# Altium schematic symbol library ESP32.SchLib: 19 symbols (part 1 of 2)
Pins are listed as number, name and electrical type; pins without a type are passive.

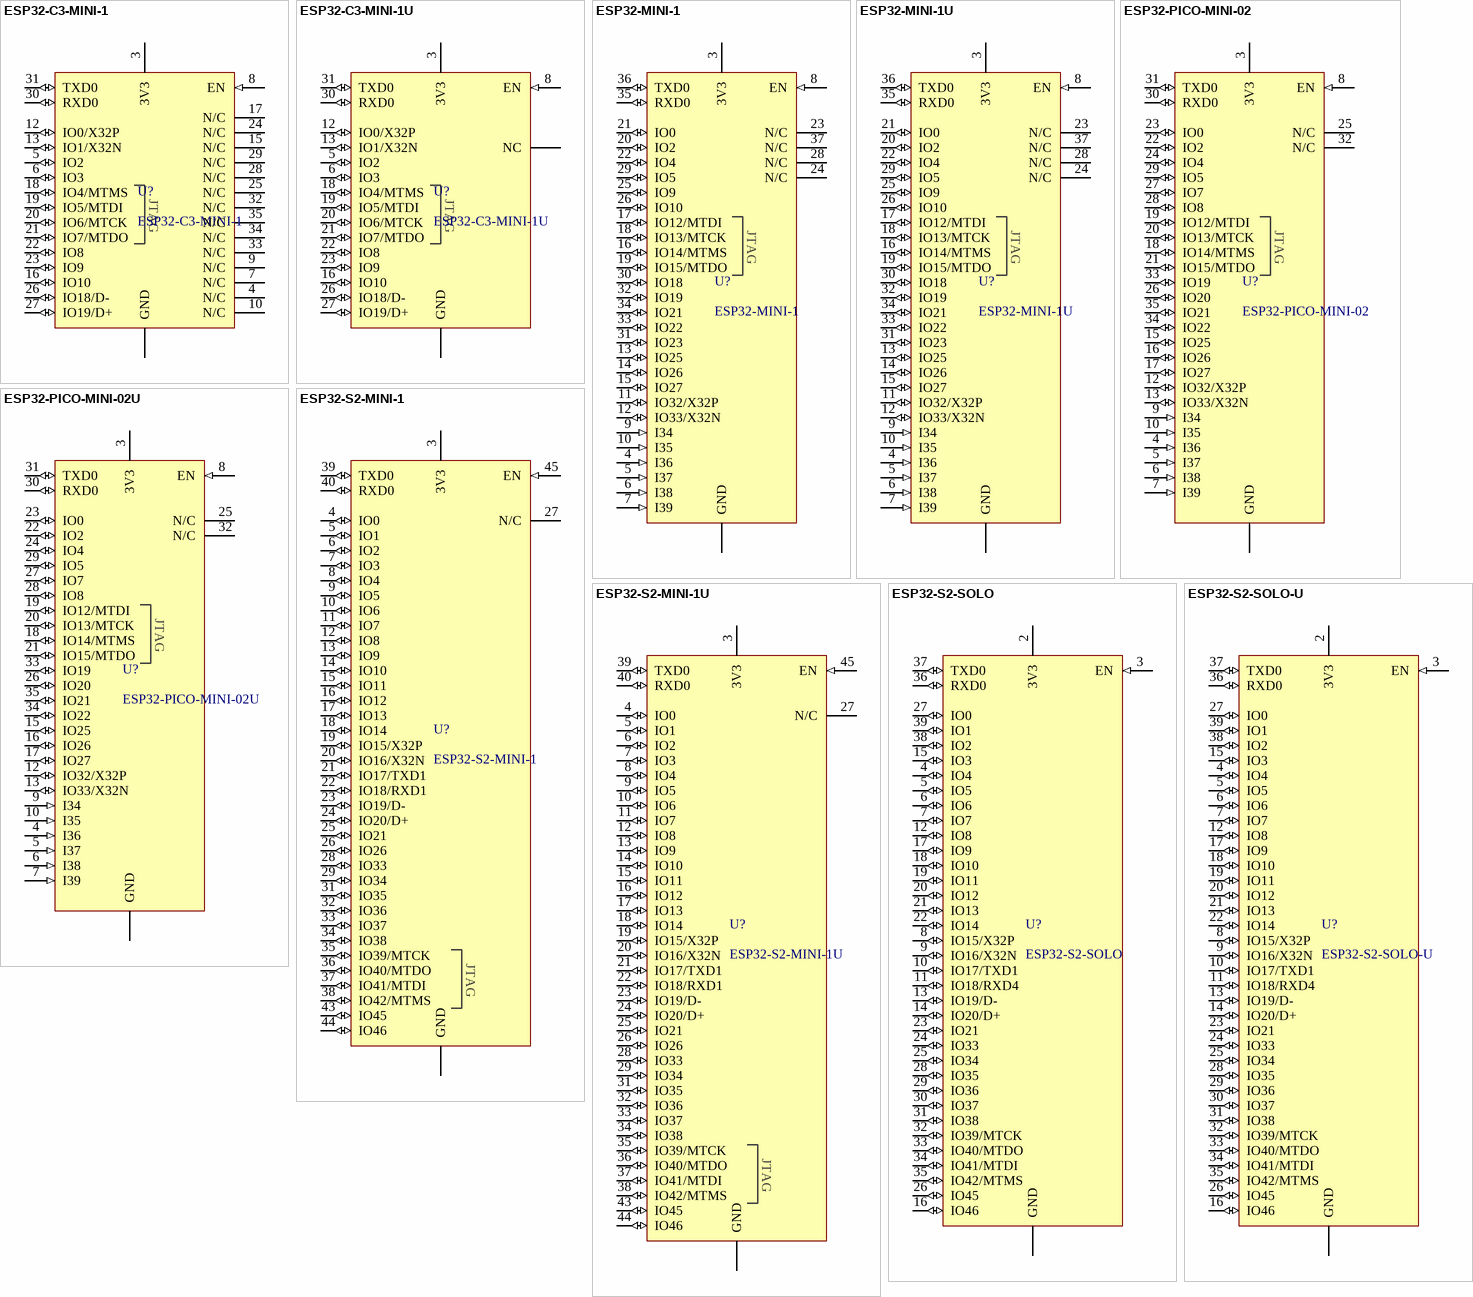
[diagram p0: symbols ESP32-C3-MINI-1 to ESP32-S2-SOLO-U]

## ESP32-C3-MINI-1
designator U?
PCB Antenna - 2.4 GHz Wi­Fi (802.11 b/g/n) and Bluetooth® 5 module; Manufacturer_Name: Espressif Systems; ComponentLink1Description: Datasheet; ComponentLink1URL: https://www.espressif.com/sites/default/files/documentation/esp32-c3-mini-1_datasheet_en.pdf; ComponentLink2Description: SoC Datasheet; ComponentLink2URL: https://www.espressif.com/sites/default/files/documentation/esp32-c3_datasheet_en.pdf; ComponentLink3Description: Devkit; ComponentLink3URL: https://docs.espressif.com/projects/esp-idf/en/latest/esp32c3/hw-reference/esp32c3/user-guide-devkitm-1.html
footprint ESP32-C3-MINI/PICO-MINI (PCB ANTENNA - 53 PIN)
pins: 1 GND (power) "Ground", 2 GND (power) "Ground", 3 3V3 (power) "Power Supply", 4 N/C "Non Connected", 5 IO2 (io) "GPIO2, ADC1_CH2, FSPIQ", 6 IO3 (io) "GPIO3, ADC1_CH3", 7 N/C "Non Connected", 8 EN (in) "Chip Enable", 9 N/C "Non Connected", 10 N/C "Non Connected", 11 GND (power) "Ground", 12 IO0/X32P (io) "GPIO0, ADC1_CH0, XTAL_32K_P", 13 IO1/X32N (io) "GPIO1, ADC1_CH1, XTAL_32K_N", 14 GND (power) "Ground", 15 N/C "Non Connected", 16 IO10 (io) "GPIO10, FSPICS0", 17 N/C "Non Connected", 18 IO4/MTMS (io) "GPIO4, ADC1_CH4, FSPIHD, MTMS", 19 IO5/MTDI (io) "GPIO5, ADC2_CH0, FSPIWP, MTDI", 20 IO6/MTCK (io) "GPIO6, FSPICLK, MTCK", 21 IO7/MTDO (io) "GPIO7, FSPID, MTDO", 22 IO8 (io) "GPIO8", 23 IO9 (io) "GPIO9", 24 N/C "Non Connected", 25 N/C "Non Connected", 26 IO18/D- (io) "GPIO18, USB_D", 27 IO19/D+ (io) "GPIO19, USB_D+", 28 N/C "Non Connected", 29 N/C "Non Connected", 30 RXD0 (io) "GPIO20, U0RXD", 31 TXD0 (io) "GPIO21, U0TXD", 32 N/C "Non Connected", 33 N/C "Non Connected", 34 N/C "Non Connected", 35 N/C "Non Connected", 36 GND (power) "Ground", 37 GND (power) "Ground", 38 GND (power) "Ground", 39 GND (power) "Ground", 40 GND (power) "Ground", 41 GND (power) "Ground", 42 GND (power) "Ground", 43 GND (power) "Ground", 44 GND (power) "Ground", 45 GND (power) "Ground", 46 GND (power) "Ground", 47 GND (power) "Ground", 48 GND (power) "Ground", 49 GND (power) "Ground", 50 GND (power) "Ground", 51 GND (power) "Ground", 52 GND (power) "Ground", 53 GND (power) "Ground"
text: JTAG

## ESP32-C3-MINI-1U
designator U?
IPEX Antenna - 2.4 GHz Wi­Fi (802.11 b/g/n) and Bluetooth® 5 module; Manufacturer_Name: Espressif Systems; ComponentLink1Description: Datasheet; ComponentLink1URL: https://www.espressif.com/sites/default/files/documentation/esp32-c3-mini-1_datasheet_en.pdf; ComponentLink2Description: SoC Datasheet; ComponentLink2URL: https://www.espressif.com/sites/default/files/documentation/esp32-c3_datasheet_en.pdf; ComponentLink3Description: Devkit; ComponentLink3URL: https://docs.espressif.com/projects/esp-idf/en/latest/esp32c3/hw-reference/esp32c3/user-guide-devkitm-1.html
footprint ESP32-C3-MINI-1U/PICO-MINI-U (IPEX ANTENNA - 53 PIN)
pins: 1 GND (power) "Ground", 2 GND (power) "Ground", 3 3V3 (power) "Power Supply", 4 NC "Non Connected", 5 IO2 (io) "GPIO2, ADC1_CH2, FSPIQ", 6 IO3 (io) "GPIO3, ADC1_CH3", 7 NC "Non Connected", 8 EN (in) "Chip Enable", 9 NC "Non Connected", 10 NC "Non Connected", 11 GND (power) "Ground", 12 IO0/X32P (io) "GPIO0, ADC1_CH0, XTAL_32K_P", 13 IO1/X32N (io) "GPIO1, ADC1_CH1, XTAL_32K_N", 14 GND (power) "Ground", 15 NC "Non Connected", 16 IO10 (io) "GPIO10, FSPICS0", 17 NC "Non Connected", 18 IO4/MTMS (io) "GPIO4, ADC1_CH4, FSPIHD, MTMS", 19 IO5/MTDI (io) "GPIO5, ADC2_CH0, FSPIWP, MTDI", 20 IO6/MTCK (io) "GPIO6, FSPICLK, MTCK", 21 IO7/MTDO (io) "GPIO7, FSPID, MTDO", 22 IO8 (io) "GPIO8", 23 IO9 (io) "GPIO9", 24 NC "Non Connected", 25 NC "Non Connected", 26 IO18/D- (io) "GPIO18, USB_D", 27 IO19/D+ (io) "GPIO19, USB_D+", 28 NC "Non Connected", 29 NC "Non Connected", 30 RXD0 (io) "GPIO20, U0RXD", 31 TXD0 (io) "GPIO21, U0TXD", 32 NC "Non Connected", 33 NC "Non Connected", 34 NC "Non Connected", 35 NC "Non Connected", 36 GND (power) "Ground", 37 GND (power) "Ground", 38 GND (power) "Ground", 39 GND (power) "Ground", 40 GND (power) "Ground", 41 GND (power) "Ground", 42 GND (power) "Ground", 43 GND (power) "Ground", 44 GND (power) "Ground", 45 GND (power) "Ground", 46 GND (power) "Ground", 47 GND (power) "Ground", 48 GND (power) "Ground", 49 GND (power) "Ground", 50 GND (power) "Ground", 51 GND (power) "Ground", 52 GND (power) "Ground", 53 GND (power) "Ground"
text: JTAG

## ESP32-MINI-1
designator U?
IPEX Antenna - 2 MB Embedded PSRAM - 8 MB Embedded Flash - WiFi - BT - MCU / Single core 160MHz; Manufacturer_Name: Espressif Systems; ComponentLink1Description: Datasheet; ComponentLink1URL: https://www.espressif.com/sites/default/files/documentation/esp32-mini-1_datasheet_en.pdf; ComponentLink2Description: SoC Datasheet; ComponentLink2URL: https://www.espressif.com/sites/default/files/documentation/esp32_datasheet_en.pdf; ComponentLink3Description: Devkit; ComponentLink3URL: https://docs.espressif.com/projects/esp-idf/en/latest/esp32/hw-reference/esp32/user-guide-devkitm-1.html
footprint ESP32-MINI-1 (PCB ANTENNA - 55 PIN)
pins: 1 GND (power) "Ground", 2 GND (power) "Ground", 3 3V3 (power) "Power Supply", 4 I36 (in) "GPIO36, ADC1_CH0, RTC_GPIO0", 5 I37 (in) "GPIO37, ADC1_CH1, RTC_GPIO1", 6 I38 (in) "GPIO38, ADC1_CH2, RTC_GPIO2", 7 I39 (in) "GPIO39, ADC1_CH3, RTC_GPIO3", 8 EN (in) "Chip Enable", 9 I34 (in) "GPIO34, ADC1_CH6, RTC_GPIO4", 10 I35 (in) "GPIO35, ADC1_CH7, RTC_GPIO5", 11 IO32/X32P (io) "GPIO32, XTAL_32K_P (32.768 kHz crystal oscillator input), ADC1_CH4, TOUCH9, RTC_GPIO9", 12 IO33/X32N (io) "GPIO33, XTAL_32K_N (32.768 kHz crystal oscillator output), ADC1_CH5, TOUCH8, RTC_GPIO8", 13 IO25 (io) "GPIO25, DAC_1, ADC2_CH8, RTC_GPIO6, EMAC_RXD0", 14 IO26 (io) "GPIO26, DAC_2, ADC2_CH9, RTC_GPIO7, EMAC_RXD1", 15 IO27 (io) "GPIO27, ADC2_CH7, TOUCH7, RTC_GPIO17, EMAC_RX_DV", 16 IO14/MTMS (io) "GPIO14, ADC2_CH6, TOUCH6, RTC_GPIO16, MTMS, HSPICLK, HS2_CLK, SD_CLK, EMAC_TXD2", 17 IO12/MTDI (io) "GPIO12, ADC2_CH5, TOUCH5, RTC_GPIO15, MTDI, HSPIQ, HS2_DATA2, SD_DATA2, EMAC_TXD3", 18 IO13/MTCK (io) "GPIO13, ADC2_CH4, TOUCH4, RTC_GPIO14, MTCK, HSPID, HS2_DATA3, SD_DATA3, EMAC_RX_ER", 19 IO15/MTDO (io) "GPIO15, ADC2_CH3, TOUCH3, RTC_GPIO13, MTDO, HSPICS0, HS2_CMD, SD_CMD, EMAC_RXD3", 20 IO2 (io) "GPIO2, ADC2_CH2, TOUCH2, RTC_GPIO12, HSPIWP, HS2_DATA0, SD_DATA0", 21 IO0 (io) "GPIO0, ADC2_CH1, TOUCH1, RTC_GPIO11, CLK_OUT1, EMAC_TX_CLK", 22 IO4 (io) "GPIO4, ADC2_CH0, TOUCH0, RTC_GPIO10, HSPIHD, HS2_DATA1, SD_DATA1, EMAC_TX_ER", 23 N/C "No Connect", 24 N/C "No Connect", 25 IO9 (io) "GPIO9, HS1_DATA2, U1RXD, SD_DATA2", 26 IO10 (io) "GPIO10, HS1_DATA3, U1TXD, SD_DATA3", 27 GND (power) "Ground", 28 N/C "No Connect", 29 IO5 (io) "GPIO5, HS1_DATA6, VSPICS0, EMAC_RX_CLK", 30 IO18 (io) "GPIO18, HS1_DATA7, VSPICLK", 31 IO23 (io) "GPIO23, HS1_STROBE, VSPID", 32 IO19 (io) "GPIO19, VSPIQ, U0CTS, EMAC_TXD0", 33 IO22 (io) "GPIO22, VSPIWP, U0RTS, EMAC_TXD1", 34 IO21 (io) "GPIO21, VSPIHD, EMAC_TX_EN", 35 RXD0 (io) "GPIO3, U0RXD, CLK_OUT2", 36 TXD0 (io) "GPIO1, U0TXD, CLK_OUT3, EMAC_RXD2", 37 N/C "No Connect", 38 GND (power) "Ground", 39 GND (power) "Ground", 40 GND (power) "Ground", 41 GND (power) "Ground", 42 GND (power) "Ground", 43 GND (power) "Ground", 44 GND (power) "Ground", 45 GND (power) "Ground", 46 GND (power) "Ground", 47 GND (power) "Ground", 48 GND (power) "Ground", 49 GND (power) "Ground", 50 GND (power) "Ground", 51 GND (power) "Ground", 52 GND (power) "Ground", 53 GND (power) "Ground", 54 GND (power) "Ground", 55 GND (power) "Ground"
text: JTAG

## ESP32-MINI-1U
designator U?
IPEX Antenna - 4 MB Embedded Flash - WiFi - BT - MCU / Single core 160MHz; Manufacturer_Name: Espressif Systems; ComponentLink1Description: Datasheet; ComponentLink1URL: https://www.espressif.com/sites/default/files/documentation/esp32-mini-1_datasheet_en.pdf; ComponentLink2Description: SoC Datasheet; ComponentLink2URL: https://www.espressif.com/sites/default/files/documentation/esp32_datasheet_en.pdf; ComponentLink3Description: Devkit; ComponentLink3URL: https://docs.espressif.com/projects/esp-idf/en/latest/esp32/hw-reference/esp32/user-guide-devkitm-1.html
footprint ESP32-MINI-1U (IPEX ANTENNA - 55 PIN)
pins: 1 GND (power) "Ground", 2 GND (power) "Ground", 3 3V3 (power) "Power Supply", 4 I36 (in) "GPIO36, ADC1_CH0, RTC_GPIO0", 5 I37 (in) "GPIO37, ADC1_CH1, RTC_GPIO1", 6 I38 (in) "GPIO38, ADC1_CH2, RTC_GPIO2", 7 I39 (in) "GPIO39, ADC1_CH3, RTC_GPIO3", 8 EN (in) "Chip Enable", 9 I34 (in) "GPIO34, ADC1_CH6, RTC_GPIO4", 10 I35 (in) "GPIO35, ADC1_CH7, RTC_GPIO5", 11 IO32/X32P (io) "GPIO32, XTAL_32K_P (32.768 kHz crystal oscillator input), ADC1_CH4, TOUCH9, RTC_GPIO9", 12 IO33/X32N (io) "GPIO33, XTAL_32K_N (32.768 kHz crystal oscillator output), ADC1_CH5, TOUCH8, RTC_GPIO8", 13 IO25 (io) "GPIO25, DAC_1, ADC2_CH8, RTC_GPIO6, EMAC_RXD0", 14 IO26 (io) "GPIO26, DAC_2, ADC2_CH9, RTC_GPIO7, EMAC_RXD1", 15 IO27 (io) "GPIO27, ADC2_CH7, TOUCH7, RTC_GPIO17, EMAC_RX_DV", 16 IO14/MTMS (io) "GPIO14, ADC2_CH6, TOUCH6, RTC_GPIO16, MTMS, HSPICLK, HS2_CLK, SD_CLK, EMAC_TXD2", 17 IO12/MTDI (io) "GPIO12, ADC2_CH5, TOUCH5, RTC_GPIO15, MTDI, HSPIQ, HS2_DATA2, SD_DATA2, EMAC_TXD3", 18 IO13/MTCK (io) "GPIO13, ADC2_CH4, TOUCH4, RTC_GPIO14, MTCK, HSPID, HS2_DATA3, SD_DATA3, EMAC_RX_ER", 19 IO15/MTDO (io) "GPIO15, ADC2_CH3, TOUCH3, RTC_GPIO13, MTDO, HSPICS0, HS2_CMD, SD_CMD, EMAC_RXD3", 20 IO2 (io) "GPIO2, ADC2_CH2, TOUCH2, RTC_GPIO12, HSPIWP, HS2_DATA0, SD_DATA0", 21 IO0 (io) "GPIO0, ADC2_CH1, TOUCH1, RTC_GPIO11, CLK_OUT1, EMAC_TX_CLK", 22 IO4 (io) "GPIO4, ADC2_CH0, TOUCH0, RTC_GPIO10, HSPIHD, HS2_DATA1, SD_DATA1, EMAC_TX_ER", 23 N/C "No Connect", 24 N/C "No Connect", 25 IO9 (io) "GPIO9, HS1_DATA2, U1RXD, SD_DATA2", 26 IO10 (io) "GPIO10, HS1_DATA3, U1TXD, SD_DATA3", 27 GND (power) "Ground", 28 N/C "No Connect", 29 IO5 (io) "GPIO5, HS1_DATA6, VSPICS0, EMAC_RX_CLK", 30 IO18 (io) "GPIO18, HS1_DATA7, VSPICLK", 31 IO23 (io) "GPIO23, HS1_STROBE, VSPID", 32 IO19 (io) "GPIO19, VSPIQ, U0CTS, EMAC_TXD0", 33 IO22 (io) "GPIO22, VSPIWP, U0RTS, EMAC_TXD1", 34 IO21 (io) "GPIO21, VSPIHD, EMAC_TX_EN", 35 RXD0 (io) "GPIO3, U0RXD, CLK_OUT2", 36 TXD0 (io) "GPIO1, U0TXD, CLK_OUT3, EMAC_RXD2", 37 N/C "No Connect", 38 GND (power) "Ground", 39 GND (power) "Ground", 40 GND (power) "Ground", 41 GND (power) "Ground", 42 GND (power) "Ground", 43 GND (power) "Ground", 44 GND (power) "Ground", 45 GND (power) "Ground", 46 GND (power) "Ground", 47 GND (power) "Ground", 48 GND (power) "Ground", 49 GND (power) "Ground", 50 GND (power) "Ground", 51 GND (power) "Ground", 52 GND (power) "Ground", 53 GND (power) "Ground", 54 GND (power) "Ground", 55 GND (power) "Ground"
text: JTAG

## ESP32-PICO-MINI-02
designator U?
PCB Antenna - 2 MB Embedded PSRAM - 8 MB Embedded Flash - WiFi - BT - MCU; Manufacturer_Name: Espressif Systems; ComponentLink1Description: Datasheet; ComponentLink1URL: https://www.espressif.com/sites/default/files/documentation/esp32-pico-mini-02_datasheet_en.pdf; ComponentLink2Description: SoC Datasheet; ComponentLink2URL: https://www.espressif.com/sites/default/files/documentation/esp32_datasheet_en.pdf; ComponentLink3Description: Devkit; ComponentLink3URL: https://docs.espressif.com/projects/esp-idf/en/latest/esp32/hw-reference/esp32/get-started-pico-devkitm-2.html
footprint ESP32-C3-MINI/PICO-MINI (PCB ANTENNA - 53 PIN)
pins: 1 GND, 2 GND, 3 3V3 (power) "Power supply", 4 I36 (in) "GPIO36, ADC1_CH0, RTC_GPIO0", 5 I37 (in) "GPIO37, ADC1_CH1, RTC_GPIO1", 6 I38 (in) "GPIO38, ADC1_CH2, RTC_GPIO2", 7 I39 (in) "GPIO39, ADC1_CH3, RTC_GPIO3", 8 EN (in) "Chip Enable", 9 I34 (in) "GPIO34, ADC1_CH6, RTC_GPIO4", 10 I35 (in) "GPIO35, ADC1_CH7, RTC_GPIO5", 11 GND, 12 IO32/X32P (io) "GPIO32, XTAL_32K_P (32.768 kHz crystal oscillator input), ADC1_CH4, TOUCH9, RTC_GPIO9", 13 IO33/X32N (io) "GPIO33, XTAL_32K_N (32.768 kHz crystal oscillator output), ADC1_CH5, TOUCH8, RTC_GPIO8", 14 GND, 15 IO25 (io) "GPIO25, DAC_1, ADC2_CH8, RTC_GPIO6, EMAC_RXD0", 16 IO26 (io) "GPIO26, DAC_2, ADC2_CH9, RTC_GPIO7, EMAC_RXD1", 17 IO27 (io) "GPIO27, ADC2_CH7, TOUCH7, RTC_GPIO17, EMAC_RX_DV", 18 IO14/MTMS (io) "GPIO14, ADC2_CH6, TOUCH6, RTC_GPIO16, MTMS, HSPICLK, HS2_CLK, SD_CLK, EMAC_TXD2", 19 IO12/MTDI (io) "GPIO12, ADC2_CH5, TOUCH5, RTC_GPIO15, MTDI, HSPIQ, HS2_DATA2, SD_DATA2, EMAC_TXD3", 20 IO13/MTCK (io) "GPIO13, ADC2_CH4, TOUCH4, RTC_GPIO14, MTCK, HSPID, HS2_DATA3, SD_DATA3, EMAC_RX_ER", 21 IO15/MTDO (io) "GPIO15, ADC2_CH3, TOUCH3, RTC_GPIO13, MTDO, HSPICS0, HS2_CMD, SD_CMD, EMAC_RXD3", 22 IO2 (io) "GPIO2, ADC2_CH2, TOUCH2, RTC_GPIO12, HSPIWP, HS2_DATA0, SD_DATA0", 23 IO0 (io) "GPIO0, ADC2_CH1, TOUCH1, RTC_GPIO11, CLK_OUT1, EMAC_TX_CLK", 24 IO4 (io) "GPIO4, ADC2_CH0, TOUCH0, RTC_GPIO10, HSPIHD, HS2_DATA1, SD_DATA1, EMAC_TX_ER", 25 N/C, 26 IO20 (io) "GPIO20", 27 IO7 (io) "GPIO7, HS1_DATA0, U2RTS, SD_DATA0", 28 IO8 (io) "GPIO8, HS1_DATA1, U2CTS, SD_DATA1", 29 IO5 (io) "GPIO5, HS1_DATA6, VSPICS0, EMAC_RX_CLK", 30 RXD0 (io) "GPIO3, U0RXD, CLK_OUT2", 31 TXD0 (io) "GPIO1, U0TXD, CLK_OUT3, EMAC_RXD2", 32 N/C, 33 IO19 (io) "GPIO19, VSPIQ, U0CTS, EMAC_TXD0", 34 IO22 (io) "GPIO22, VSPIWP, U0RTS, EMAC_TXD1", 35 IO21 (io) "GPIO21, VSPIHD, EMAC_TX_EN", 36 GND, 37 GND, 38 GND, 39 GND, 40 GND, 41 GND, 42 GND, 43 GND, 44 GND, 45 GND, 46 GND, 47 GND, 48 GND, 49 GND, 50 GND, 51 GND, 52 GND, 53 GND
text: JTAG

## ESP32-PICO-MINI-02U
designator U?
IPEX Antenna - 2 MB Embedded PSRAM - 8 MB Embedded Flash - WiFi - BT - MCU; Manufacturer_Name: Espressif Systems; ComponentLink1Description: Datasheet; ComponentLink1URL: https://www.espressif.com/sites/default/files/documentation/esp32-pico-mini-02_datasheet_en.pdf; ComponentLink2Description: SoC Datasheet; ComponentLink2URL: https://www.espressif.com/sites/default/files/documentation/esp32_datasheet_en.pdf; ComponentLink3Description: Devkit; ComponentLink3URL: https://docs.espressif.com/projects/esp-idf/en/latest/esp32/hw-reference/esp32/get-started-pico-devkitm-2.html
footprint ESP32-C3-MINI-1U/PICO-MINI-U (IPEX ANTENNA - 53 PIN)
pins: 1 GND, 2 GND, 3 3V3 (power) "Power supply", 4 I36 (in) "GPIO36, ADC1_CH0, RTC_GPIO0", 5 I37 (in) "GPIO37, ADC1_CH1, RTC_GPIO1", 6 I38 (in) "GPIO38, ADC1_CH2, RTC_GPIO2", 7 I39 (in) "GPIO39, ADC1_CH3, RTC_GPIO3", 8 EN (in) "Chip Enable", 9 I34 (in) "GPIO34, ADC1_CH6, RTC_GPIO4", 10 I35 (in) "GPIO35, ADC1_CH7, RTC_GPIO5", 11 GND, 12 IO32/X32P (io) "GPIO32, XTAL_32K_P (32.768 kHz crystal oscillator input), ADC1_CH4, TOUCH9, RTC_GPIO9", 13 IO33/X32N (io) "GPIO33, XTAL_32K_N (32.768 kHz crystal oscillator output), ADC1_CH5, TOUCH8, RTC_GPIO8", 14 GND, 15 IO25 (io) "GPIO25, DAC_1, ADC2_CH8, RTC_GPIO6, EMAC_RXD0", 16 IO26 (io) "GPIO26, DAC_2, ADC2_CH9, RTC_GPIO7, EMAC_RXD1", 17 IO27 (io) "GPIO27, ADC2_CH7, TOUCH7, RTC_GPIO17, EMAC_RX_DV", 18 IO14/MTMS (io) "GPIO14, ADC2_CH6, TOUCH6, RTC_GPIO16, MTMS, HSPICLK, HS2_CLK, SD_CLK, EMAC_TXD2", 19 IO12/MTDI (io) "GPIO12, ADC2_CH5, TOUCH5, RTC_GPIO15, MTDI, HSPIQ, HS2_DATA2, SD_DATA2, EMAC_TXD3", 20 IO13/MTCK (io) "GPIO13, ADC2_CH4, TOUCH4, RTC_GPIO14, MTCK, HSPID, HS2_DATA3, SD_DATA3, EMAC_RX_ER", 21 IO15/MTDO (io) "GPIO15, ADC2_CH3, TOUCH3, RTC_GPIO13, MTDO, HSPICS0, HS2_CMD, SD_CMD, EMAC_RXD3", 22 IO2 (io) "GPIO2, ADC2_CH2, TOUCH2, RTC_GPIO12, HSPIWP, HS2_DATA0, SD_DATA0", 23 IO0 (io) "GPIO0, ADC2_CH1, TOUCH1, RTC_GPIO11, CLK_OUT1, EMAC_TX_CLK", 24 IO4 (io) "GPIO4, ADC2_CH0, TOUCH0, RTC_GPIO10, HSPIHD, HS2_DATA1, SD_DATA1, EMAC_TX_ER", 25 N/C, 26 IO20 (io) "GPIO20", 27 IO7 (io) "GPIO7, HS1_DATA0, U2RTS, SD_DATA0", 28 IO8 (io) "GPIO8, HS1_DATA1, U2CTS, SD_DATA1", 29 IO5 (io) "GPIO5, HS1_DATA6, VSPICS0, EMAC_RX_CLK", 30 RXD0 (io) "GPIO3, U0RXD, CLK_OUT2", 31 TXD0 (io) "GPIO1, U0TXD, CLK_OUT3, EMAC_RXD2", 32 N/C, 33 IO19 (io) "GPIO19, VSPIQ, U0CTS, EMAC_TXD0", 34 IO22 (io) "GPIO22, VSPIWP, U0RTS, EMAC_TXD1", 35 IO21 (io) "GPIO21, VSPIHD, EMAC_TX_EN", 36 GND, 37 GND, 38 GND, 39 GND, 40 GND, 41 GND, 42 GND, 43 GND, 44 GND, 45 GND, 46 GND, 47 GND, 48 GND, 49 GND, 50 GND, 51 GND, 52 GND, 53 GND
text: JTAG

## ESP32-S2-MINI-1
designator U?
PCB Antenna - 0,2 MB Embedded PSRAM - 4 MB Embedded Flash - WiFi - MCU; Manufacturer_Name: Espressif Systems; ComponentLink1Description: Datasheet; ComponentLink1URL: https://www.espressif.com/sites/default/files/documentation/esp32-s2-mini-1_esp32-s2-mini-1u_datasheet_en.pdf; ComponentLink2Description: SoC Datasheet; ComponentLink2URL: https://www.espressif.com/sites/default/files/documentation/esp32-s2_datasheet_en.pdf; ComponentLink3Description: Devkit; ComponentLink3URL: https://docs.espressif.com/projects/esp-idf/en/latest/esp32s2/hw-reference/esp32s2/user-guide-devkitm-1-v1.html
footprint ESP32-S2/3-MINI-1 (PCB ANTENNA - 65 PIN)
pins: 1 GND (power), 2 GND (power), 3 3V3 (power) "Power supply", 4 IO0 (io) "RTC_GPIO0, GPIO0", 5 IO1 (io) "RTC_GPIO1, GPIO1, TOUCH1, ADC1_CH0", 6 IO2 (io) "RTC_GPIO2, GPIO2, TOUCH2, ADC1_CH1", 7 IO3 (io) "RTC_GPIO3, GPIO3, TOUCH3, ADC1_CH2", 8 IO4 (io) "RTC_GPIO4, GPIO4, TOUCH4, ADC1_CH3", 9 IO5 (io) "RTC_GPIO5, GPIO5, TOUCH5, ADC1_CH4", 10 IO6 (io) "RTC_GPIO6, GPIO6, TOUCH6, ADC1_CH5", 11 IO7 (io) "RTC_GPIO7, GPIO7, TOUCH7, ADC1_CH6", 12 IO8 (io) "RTC_GPIO8, GPIO8, TOUCH8, ADC1_CH7", 13 IO9 (io) "RTC_GPIO9, GPIO9, TOUCH9, ADC1_CH8, FSPIHD", 14 IO10 (io) "RTC_GPIO10, GPIO10, TOUCH10, ADC1_CH9, FSPICS0, FSPIIO4", 15 IO11 (io) "RTC_GPIO11, GPIO11, TOUCH11, ADC2_CH0, FSPID, FSPIIO5", 16 IO12 (io) "RTC_GPIO12, GPIO12, TOUCH12, ADC2_CH1, FSPICLK, FSPIIO6", 17 IO13 (io) "RTC_GPIO13, GPIO13, TOUCH13, ADC2_CH2, FSPIQ, FSPIIO7", 18 IO14 (io) "RTC_GPIO14, GPIO14, TOUCH14, ADC2_CH3, FSPIWP, FSPIDQS", 19 IO15/X32P (io) "RTC_GPIO15, GPIO15, U0RTS, ADC2_CH4, XTAL_32K_P", 20 IO16/X32N (io) "RTC_GPIO16, GPIO16, U0CTS, ADC2_CH5, XTAL_32K_N", 21 IO17/TXD1 (io) "RTC_GPIO17, GPIO17, U1TXD, ADC2_CH6, DAC_1", 22 IO18/RXD1 (io) "RTC_GPIO18, GPIO18, U1RXD, ADC2_CH7, DAC_2, CLK_OUT3", 23 IO19/D- (io) "RTC_GPIO19, GPIO19, U1RTS, ADC2_CH8, CLK_OUT2, USB_D-", 24 IO20/D+ (io) "RTC_GPIO20, GPIO20, U1CTS, ADC2_CH9, CLK_OUT1, USB_D+", 25 IO21 (io) "RTC_GPIO21, GPIO21", 26 IO26 (io) "SPICS1, GPIO26", 27 N/C "NC", 28 IO33 (io) "SPIIO4, GPIO33, FSPIHD", 29 IO34 (io) "SPIIO5, GPIO34, FSPICS0", 30 GND (power), 31 IO35 (io) "SPIIO6, GPIO35, FSPID", 32 IO36 (io) "SPIIO7, GPIO36, FSPICLK", 33 IO37 (io) "SPIDQS, GPIO37, FSPIQ", 34 IO38 (io) "GPIO38, FSPIWP", 35 IO39/MTCK (io) "MTCK, GPIO39, CLK_OUT3", 36 IO40/MTDO (io) "MTDO, GPIO40, CLK_OUT2", 37 IO41/MTDI (io) "MTDI, GPIO41, CLK_OUT1", 38 IO42/MTMS (io) "MTMS, GPIO42", 39 TXD0 (io) "U0TXD, GPIO43, CLK_OUT1", 40 RXD0 (io) "U0RXD, GPIO44, CLK_OUT2", 41 GND (power), 42 GND (power), 43 IO45 (io) "GPIO45", 44 IO46 (io) "GPIO46", 45 EN (in) "Chip Enable", 46 GND (power), 47 GND (power), 48 GND (power), 49 GND (power), 50 GND (power), 51 GND (power), 52 GND (power), 53 GND (power), 54 GND (power), 55 GND (power), 56 GND (power), 57 GND (power), 58 GND (power), 59 GND (power), 60 GND (power), 61 GND (power), 62 GND (power), 63 GND (power), 64 GND (power), 65 GND (power)
text: JTAG

## ESP32-S2-MINI-1U
designator U?
IPEX Antenna - 0,2 MB Embedded PSRAM - 4 MB Embedded Flash - WiFi - MCU; Manufacturer_Name: Espressif Systems; ComponentLink1Description: Datasheet; ComponentLink1URL: https://www.espressif.com/sites/default/files/documentation/esp32-s2-mini-1_esp32-s2-mini-1u_datasheet_en.pdf; ComponentLink2Description: SoC Datasheet; ComponentLink2URL: https://www.espressif.com/sites/default/files/documentation/esp32-s2_datasheet_en.pdf; ComponentLink3Description: Devkit; ComponentLink3URL: https://docs.espressif.com/projects/esp-idf/en/latest/esp32s2/hw-reference/esp32s2/user-guide-devkitm-1-v1.html
footprint ESP32-S2/3-MINI-1U (IPEX ANTENNA - 65 PIN)
pins: 1 GND (power), 2 GND (power), 3 3V3 (power) "Power supply", 4 IO0 (io) "RTC_GPIO0, GPIO0", 5 IO1 (io) "RTC_GPIO1, GPIO1, TOUCH1, ADC1_CH0", 6 IO2 (io) "RTC_GPIO2, GPIO2, TOUCH2, ADC1_CH1", 7 IO3 (io) "RTC_GPIO3, GPIO3, TOUCH3, ADC1_CH2", 8 IO4 (io) "RTC_GPIO4, GPIO4, TOUCH4, ADC1_CH3", 9 IO5 (io) "RTC_GPIO5, GPIO5, TOUCH5, ADC1_CH4", 10 IO6 (io) "RTC_GPIO6, GPIO6, TOUCH6, ADC1_CH5", 11 IO7 (io) "RTC_GPIO7, GPIO7, TOUCH7, ADC1_CH6", 12 IO8 (io) "RTC_GPIO8, GPIO8, TOUCH8, ADC1_CH7", 13 IO9 (io) "RTC_GPIO9, GPIO9, TOUCH9, ADC1_CH8, FSPIHD", 14 IO10 (io) "RTC_GPIO10, GPIO10, TOUCH10, ADC1_CH9, FSPICS0, FSPIIO4", 15 IO11 (io) "RTC_GPIO11, GPIO11, TOUCH11, ADC2_CH0, FSPID, FSPIIO5", 16 IO12 (io) "RTC_GPIO12, GPIO12, TOUCH12, ADC2_CH1, FSPICLK, FSPIIO6", 17 IO13 (io) "RTC_GPIO13, GPIO13, TOUCH13, ADC2_CH2, FSPIQ, FSPIIO7", 18 IO14 (io) "RTC_GPIO14, GPIO14, TOUCH14, ADC2_CH3, FSPIWP, FSPIDQS", 19 IO15/X32P (io) "RTC_GPIO15, GPIO15, U0RTS, ADC2_CH4, XTAL_32K_P", 20 IO16/X32N (io) "RTC_GPIO16, GPIO16, U0CTS, ADC2_CH5, XTAL_32K_N", 21 IO17/TXD1 (io) "RTC_GPIO17, GPIO17, U1TXD, ADC2_CH6, DAC_1", 22 IO18/RXD1 (io) "RTC_GPIO18, GPIO18, U1RXD, ADC2_CH7, DAC_2, CLK_OUT3", 23 IO19/D- (io) "RTC_GPIO19, GPIO19, U1RTS, ADC2_CH8, CLK_OUT2, USB_D-", 24 IO20/D+ (io) "RTC_GPIO20, GPIO20, U1CTS, ADC2_CH9, CLK_OUT1, USB_D+", 25 IO21 (io) "RTC_GPIO21, GPIO21", 26 IO26 (io) "SPICS1, GPIO26", 27 N/C "NC", 28 IO33 (io) "SPIIO4, GPIO33, FSPIHD", 29 IO34 (io) "SPIIO5, GPIO34, FSPICS0", 30 GND (power), 31 IO35 (io) "SPIIO6, GPIO35, FSPID", 32 IO36 (io) "SPIIO7, GPIO36, FSPICLK", 33 IO37 (io) "SPIDQS, GPIO37, FSPIQ", 34 IO38 (io) "GPIO38, FSPIWP", 35 IO39/MTCK (io) "MTCK, GPIO39, CLK_OUT3", 36 IO40/MTDO (io) "MTDO, GPIO40, CLK_OUT2", 37 IO41/MTDI (io) "MTDI, GPIO41, CLK_OUT1", 38 IO42/MTMS (io) "MTMS, GPIO42", 39 TXD0 (io) "U0TXD, GPIO43, CLK_OUT1", 40 RXD0 (io) "U0RXD, GPIO44, CLK_OUT2", 41 GND (power), 42 GND (power), 43 IO45 (io) "GPIO45", 44 IO46 (io) "GPIO46", 45 EN (in) "Chip Enable", 46 GND (power), 47 GND (power), 48 GND (power), 49 GND (power), 50 GND (power), 51 GND (power), 52 GND (power), 53 GND (power), 54 GND (power), 55 GND (power), 56 GND (power), 57 GND (power), 58 GND (power), 59 GND (power), 60 GND (power), 61 GND (power), 62 GND (power), 63 GND (power), 64 GND (power), 65 GND (power)
text: JTAG

## ESP32-S2-SOLO
designator U?
PCB Antenna - 0,2 MB PSRAM - 4,8,16 MB Flash - WiFi - MCU; Manufacturer_Name: Espressif Systems; ComponentLink1Description: Datasheet; ComponentLink1URL: https://www.espressif.com/sites/default/files/documentation/esp32-s2-solo_esp32-s2-solo-u_datasheet_en.pdf; ComponentLink2Description: SoC Datasheet; ComponentLink2URL: https://www.espressif.com/sites/default/files/documentation/esp32-s2_datasheet_en.pdf; ComponentLink3Description: Devkit; ComponentLink3URL: https://docs.espressif.com/projects/esp-idf/en/latest/esp32s2/hw-reference/esp32s2/user-guide-s2-devkitc-1.html
pins: 1 GND (power) "Ground", 2 3V3 (power) "Power supply", 3 EN (in) "Chip Enable", 4 IO4 (io) "RTC_GPIO4, GPIO4, TOUCH4, ADC1_CH3", 5 IO5 (io) "RTC_GPIO5, GPIO5, TOUCH5, ADC1_CH4", 6 IO6 (io) "RTC_GPIO6, GPIO6, TOUCH6, ADC1_CH5", 7 IO7 (io) "RTC_GPIO7, GPIO7, TOUCH7, ADC1_CH6", 8 IO15/X32P (io) "RTC_GPIO15, GPIO15, U0RTS, ADC2_CH4, XTAL_32K_P", 9 IO16/X32N (io) "RTC_GPIO16, GPIO16, U0CTS, ADC2_CH5, XTAL_32K_N", 10 IO17/TXD1 (io) "RTC_GPIO17, GPIO17, U1TXD, ADC2_CH6, DAC_1", 11 IO18/RXD4 (io) "RTC_GPIO18, GPIO18, U1RXD, ADC2_CH7, DAC_2, CLK_OUT3", 12 IO8 (io) "RTC_GPIO8, GPIO8, TOUCH8, ADC1_CH7", 13 IO19/D- (io) "RTC_GPIO19, GPIO19, U1RTS, ADC2_CH8, CLK_OUT2, USB_D-", 14 IO20/D+ (io) "RTC_GPIO20, GPIO20, U1CTS, ADC2_CH9, CLK_OUT1, USB_D+", 15 IO3 (io) "RTC_GPIO3, GPIO3, TOUCH3, ADC1_CH2", 16 IO46 (io) "GPIO46", 17 IO9 (io) "RTC_GPIO9, GPIO9, TOUCH9, ADC1_CH8, FSPIHD", 18 IO10 (io) "RTC_GPIO10, GPIO10, TOUCH10, ADC1_CH9, FSPICS0, FSPIIO4", 19 IO11 (io) "RTC_GPIO11, GPIO11, TOUCH11, ADC2_CH0, FSPID, FSPIIO5", 20 IO12 (io) "RTC_GPIO12, GPIO12, TOUCH12, ADC2_CH1, FSPICLK, FSPIIO6", 21 IO13 (io) "RTC_GPIO13, GPIO13, TOUCH13, ADC2_CH2, FSPIQ, FSPIIO7", 22 IO14 (io) "RTC_GPIO14, GPIO14, TOUCH14, ADC2_CH3, FSPIWP, FSPIDQS", 23 IO21 (io) "RTC_GPIO21, GPIO21", 24 IO33 (io) "SPIIO4, GPIO33, FSPIHD", 25 IO34 (io) "SPIIO5, GPIO34, FSPICS0", 26 IO45 (io) "GPIO45", 27 IO0 (io) "RTC_GPIO0, GPIO0", 28 IO35 (io) "SPIIO6, GPIO35, FSPID", 29 IO36 (io) "SPIIO7, GPIO36, FSPICLK", 30 IO37 (io) "SPIDQS, GPIO37, FSPIQ", 31 IO38 (io) "GPIO38, FSPIWP", 32 IO39/MTCK (io) "MTCK, GPIO39, CLK_OUT3", 33 IO40/MTDO (io) "MTDO, GPIO40, CLK_OUT2", 34 IO41/MTDI (io) "MTDI, GPIO41, CLK_OUT1", 35 IO42/MTMS (io) "MTMS, GPIO42", 36 RXD0 (io) "U0RXD, GPIO44, CLK_OUT2", 37 TXD0 (io) "U0TXD, GPIO43, CLK_OUT1", 38 IO2 (io) "RTC_GPIO2, GPIO2, TOUCH2, ADC1_CH1", 39 IO1 (io) "RTC_GPIO1, GPIO1, TOUCH1, ADC1_CH0", 40 GND (power) "Ground", 41 EPAD (power) "Ground"

## ESP32-S2-SOLO-U
designator U?
IPEX Antenna - 0,2 MB PSRAM - 4,8,16 MB Flash - WiFi - MCU; Manufacturer_Name: Espressif Systems; ComponentLink1Description: Datasheet; ComponentLink1URL: https://www.espressif.com/sites/default/files/documentation/esp32-s2-solo_esp32-s2-solo-u_datasheet_en.pdf; ComponentLink2Description: SoC Datasheet; ComponentLink2URL: https://www.espressif.com/sites/default/files/documentation/esp32-s2_datasheet_en.pdf; ComponentLink3Description: Devkit; ComponentLink3URL: https://docs.espressif.com/projects/esp-idf/en/latest/esp32s2/hw-reference/esp32s2/user-guide-s2-devkitc-1.html
pins: 1 GND (power) "Ground", 2 3V3 (power) "Power supply", 3 EN (in) "Chip Enable", 4 IO4 (io) "RTC_GPIO4, GPIO4, TOUCH4, ADC1_CH3", 5 IO5 (io) "RTC_GPIO5, GPIO5, TOUCH5, ADC1_CH4", 6 IO6 (io) "RTC_GPIO6, GPIO6, TOUCH6, ADC1_CH5", 7 IO7 (io) "RTC_GPIO7, GPIO7, TOUCH7, ADC1_CH6", 8 IO15/X32P (io) "RTC_GPIO15, GPIO15, U0RTS, ADC2_CH4, XTAL_32K_P", 9 IO16/X32N (io) "RTC_GPIO16, GPIO16, U0CTS, ADC2_CH5, XTAL_32K_N", 10 IO17/TXD1 (io) "RTC_GPIO17, GPIO17, U1TXD, ADC2_CH6, DAC_1", 11 IO18/RXD4 (io) "RTC_GPIO18, GPIO18, U1RXD, ADC2_CH7, DAC_2, CLK_OUT3", 12 IO8 (io) "RTC_GPIO8, GPIO8, TOUCH8, ADC1_CH7", 13 IO19/D- (io) "RTC_GPIO19, GPIO19, U1RTS, ADC2_CH8, CLK_OUT2, USB_D-", 14 IO20/D+ (io) "RTC_GPIO20, GPIO20, U1CTS, ADC2_CH9, CLK_OUT1, USB_D+", 15 IO3 (io) "RTC_GPIO3, GPIO3, TOUCH3, ADC1_CH2", 16 IO46 (io) "GPIO46", 17 IO9 (io) "RTC_GPIO9, GPIO9, TOUCH9, ADC1_CH8, FSPIHD", 18 IO10 (io) "RTC_GPIO10, GPIO10, TOUCH10, ADC1_CH9, FSPICS0, FSPIIO4", 19 IO11 (io) "RTC_GPIO11, GPIO11, TOUCH11, ADC2_CH0, FSPID, FSPIIO5", 20 IO12 (io) "RTC_GPIO12, GPIO12, TOUCH12, ADC2_CH1, FSPICLK, FSPIIO6", 21 IO13 (io) "RTC_GPIO13, GPIO13, TOUCH13, ADC2_CH2, FSPIQ, FSPIIO7", 22 IO14 (io) "RTC_GPIO14, GPIO14, TOUCH14, ADC2_CH3, FSPIWP, FSPIDQS", 23 IO21 (io) "RTC_GPIO21, GPIO21", 24 IO33 (io) "SPIIO4, GPIO33, FSPIHD", 25 IO34 (io) "SPIIO5, GPIO34, FSPICS0", 26 IO45 (io) "GPIO45", 27 IO0 (io) "RTC_GPIO0, GPIO0", 28 IO35 (io) "SPIIO6, GPIO35, FSPID", 29 IO36 (io) "SPIIO7, GPIO36, FSPICLK", 30 IO37 (io) "SPIDQS, GPIO37, FSPIQ", 31 IO38 (io) "GPIO38, FSPIWP", 32 IO39/MTCK (io) "MTCK, GPIO39, CLK_OUT3", 33 IO40/MTDO (io) "MTDO, GPIO40, CLK_OUT2", 34 IO41/MTDI (io) "MTDI, GPIO41, CLK_OUT1", 35 IO42/MTMS (io) "MTMS, GPIO42", 36 RXD0 (io) "U0RXD, GPIO44, CLK_OUT2", 37 TXD0 (io) "U0TXD, GPIO43, CLK_OUT1", 38 IO2 (io) "RTC_GPIO2, GPIO2, TOUCH2, ADC1_CH1", 39 IO1 (io) "RTC_GPIO1, GPIO1, TOUCH1, ADC1_CH0", 40 GND (power) "Ground", 41 EPAD (power) "Ground"

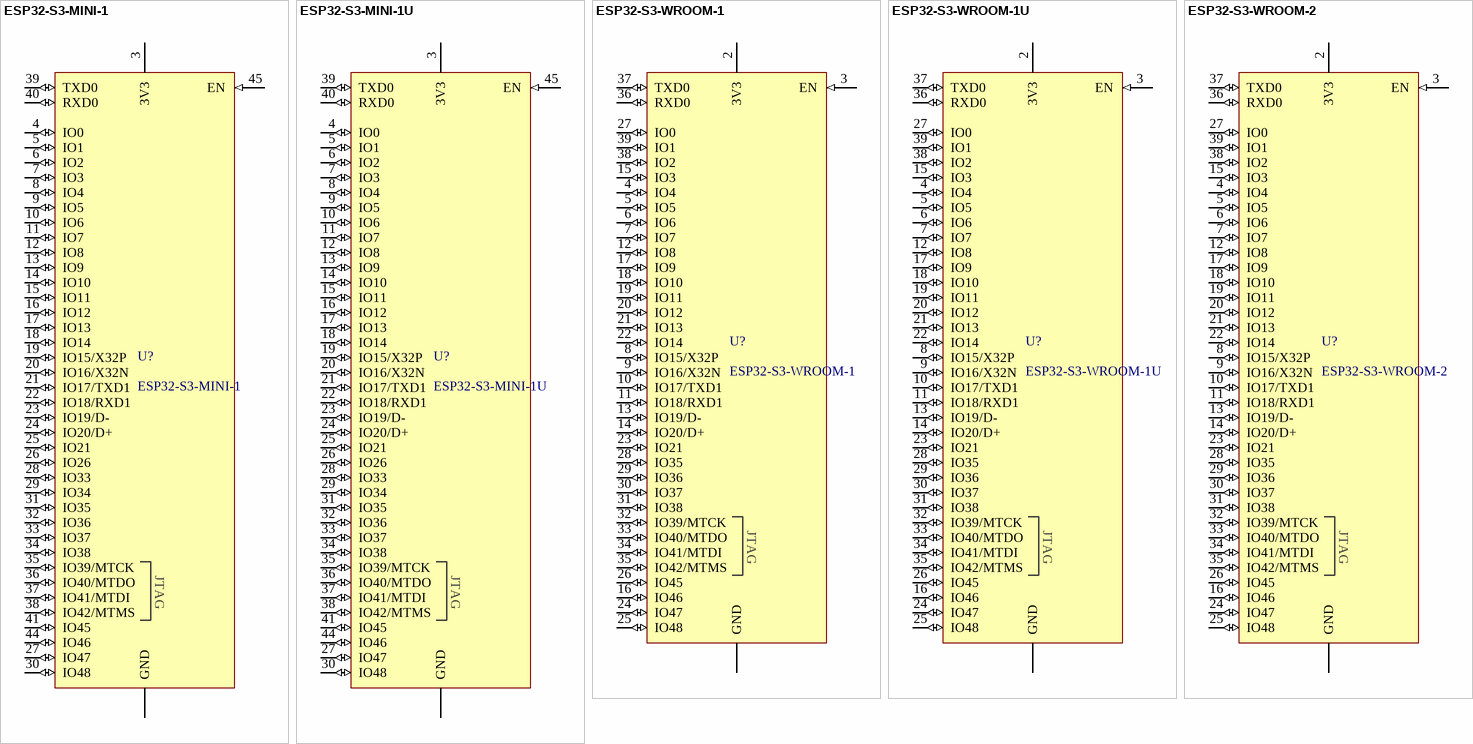
[diagram p1: symbols ESP32-S3-MINI-1 to ESP32-S3-WROOM-2]

## ESP32-S3-MINI-1
designator U?
PCB Antenna - 8 MB Embedded Flash - WiFi - BT - MCU; Manufacturer_Name: Espressif Systems; ComponentLink1Description: Datasheet; ComponentLink1URL: https://www.espressif.com/sites/default/files/documentation/esp32-s3-mini-1_mini-1u_datasheet_en.pdf; ComponentLink2Description: SoC Datasheet; ComponentLink2URL: https://www.espressif.com/sites/default/files/documentation/esp32-s3_datasheet_en.pdf; ComponentLink3Description: Devkit; ComponentLink3URL: https://docs.espressif.com/projects/esp-idf/en/latest/esp32s3/hw-reference/esp32s3/user-guide-devkitm-1.html
footprint ESP32-S2/3-MINI-1 (PCB ANTENNA - 65 PIN)
pins: 1 GND (power), 2 GND (power), 3 3V3 (power) "Power supply", 4 IO0 (io) "RTC_GPIO0, GPIO0", 5 IO1 (io) "RTC_GPIO1, GPIO1, TOUCH1, ADC1_CH0", 6 IO2 (io) "RTC_GPIO2, GPIO2, TOUCH2, ADC1_CH1", 7 IO3 (io) "RTC_GPIO3, GPIO3, TOUCH3, ADC1_CH2", 8 IO4 (io) "RTC_GPIO4, GPIO4, TOUCH4, ADC1_CH3", 9 IO5 (io) "RTC_GPIO5, GPIO5, TOUCH5, ADC1_CH4", 10 IO6 (io) "RTC_GPIO6, GPIO6, TOUCH6, ADC1_CH5", 11 IO7 (io) "RTC_GPIO7, GPIO7, TOUCH7, ADC1_CH6", 12 IO8 (io) "RTC_GPIO8, GPIO8, TOUCH8, ADC1_CH7, SUBSPICS1", 13 IO9 (io) "RTC_GPIO9, GPIO9, TOUCH9, ADC1_CH8, FSPIHD, SUBSPIHD", 14 IO10 (io) "RTC_GPIO10, GPIO10, TOUCH10, ADC1_CH9, FSPICS0, FSPIIO4, SUBSPICS0", 15 IO11 (io) "RTC_GPIO11, GPIO11, TOUCH11, ADC2_CH0, FSPID, FSPIIO5, SUBSPID", 16 IO12 (io) "RTC_GPIO12, GPIO12, TOUCH12, ADC2_CH1, FSPICLK, FSPIIO6, SUBSPICLK", 17 IO13 (io) "RTC_GPIO13, GPIO13, TOUCH13, ADC2_CH2, FSPIQ, FSPIIO7, SUBSPIQ", 18 IO14 (io) "RTC_GPIO14, GPIO14, TOUCH14, ADC2_CH3, FSPIWP, FSPIDQS, SUBSPIWP", 19 IO15/X32P (io) "RTC_GPIO15, GPIO15, U0RTS, ADC2_CH4, XTAL_32K_P", 20 IO16/X32N (io) "RTC_GPIO16, GPIO16, U0CTS, ADC2_CH5, XTAL_32K_N", 21 IO17/TXD1 (io) "RTC_GPIO17, GPIO17, U1TXD, ADC2_CH6", 22 IO18/RXD1 (io) "RTC_GPIO18, GPIO18, U1RXD, ADC2_CH7, CLK_OUT3", 23 IO19/D- (io) "RTC_GPIO19, GPIO19, U1RTS, ADC2_CH8, CLK_OUT2, USB_D-", 24 IO20/D+ (io) "RTC_GPIO20, GPIO20, U1CTS, ADC2_CH9, CLK_OUT1, USB_D+", 25 IO21 (io) "RTC_GPIO21, GPIO21", 26 IO26 (io) "SPICS1, GPIO26", 27 IO47 (io) "SPICLK_P_DIFF, GPIO47, SUBSPICLK_P_DIFF", 28 IO33 (io) "SPIIO4, GPIO33, FSPIHD, SUBSPIHD", 29 IO34 (io) "SPIIO5, GPIO34, FSPICS0, SUBSPICS0", 30 IO48 (io) "SPICLK_N_DIFF, GPIO48, SUBSPICLK_N_DIFF", 31 IO35 (io) "SPIIO6, GPIO35, FSPID, SUBSPID", 32 IO36 (io) "SPIIO7, GPIO36, FSPICLK, SUBSPICLK", 33 IO37 (io) "SPIDQS, GPIO37, FSPIQ, SUBSPIQ", 34 IO38 (io) "GPIO38, FSPIWP, SUBSPIWP", 35 IO39/MTCK (io) "MTCK, GPIO39, CLK_OUT3, SUBSPICS1", 36 IO40/MTDO (io) "MTDO, GPIO40, CLK_OUT2", 37 IO41/MTDI (io) "MTDI, GPIO41, CLK_OUT1", 38 IO42/MTMS (io) "MTMS, GPIO42", 39 TXD0 (io) "U0TXD, GPIO43, CLK_OUT1", 40 RXD0 (io) "U0RXD, GPIO44, CLK_OUT2", 41 IO45 (io) "GPIO45", 42 GND (power), 43 GND (power), 44 IO46 (io) "GPIO46", 45 EN (in) "Chip Enable", 46 GND (power), 47 GND (power), 48 GND (power), 49 GND (power), 50 GND (power), 51 GND (power), 52 GND (power), 53 GND (power), 54 GND (power), 55 GND (power), 56 GND (power), 57 GND (power), 58 GND (power), 59 GND (power), 60 GND (power), 61 GND (power), 62 GND (power), 63 GND (power), 64 GND (power), 65 GND (power)
text: JTAG

## ESP32-S3-MINI-1U
designator U?
IPEX Antenna - 8 MB Embedded Flash - WiFi - BT - MCU; Manufacturer_Name: Espressif Systems; ComponentLink1Description: Datasheet; ComponentLink1URL: https://www.espressif.com/sites/default/files/documentation/esp32-s3-mini-1_mini-1u_datasheet_en.pdf; ComponentLink2Description: SoC Datasheet; ComponentLink2URL: https://www.espressif.com/sites/default/files/documentation/esp32-s3_datasheet_en.pdf; ComponentLink3Description: Devkit; ComponentLink3URL: https://docs.espressif.com/projects/esp-idf/en/latest/esp32s3/hw-reference/esp32s3/user-guide-devkitm-1.html
footprint ESP32-S2/3-MINI-1U (IPEX ANTENNA - 65 PIN)
pins: 1 GND (power), 2 GND (power), 3 3V3 (power) "Power supply", 4 IO0 (io) "RTC_GPIO0, GPIO0", 5 IO1 (io) "RTC_GPIO1, GPIO1, TOUCH1, ADC1_CH0", 6 IO2 (io) "RTC_GPIO2, GPIO2, TOUCH2, ADC1_CH1", 7 IO3 (io) "RTC_GPIO3, GPIO3, TOUCH3, ADC1_CH2", 8 IO4 (io) "RTC_GPIO4, GPIO4, TOUCH4, ADC1_CH3", 9 IO5 (io) "RTC_GPIO5, GPIO5, TOUCH5, ADC1_CH4", 10 IO6 (io) "RTC_GPIO6, GPIO6, TOUCH6, ADC1_CH5", 11 IO7 (io) "RTC_GPIO7, GPIO7, TOUCH7, ADC1_CH6", 12 IO8 (io) "RTC_GPIO8, GPIO8, TOUCH8, ADC1_CH7, SUBSPICS1", 13 IO9 (io) "RTC_GPIO9, GPIO9, TOUCH9, ADC1_CH8, FSPIHD, SUBSPIHD", 14 IO10 (io) "RTC_GPIO10, GPIO10, TOUCH10, ADC1_CH9, FSPICS0, FSPIIO4, SUBSPICS0", 15 IO11 (io) "RTC_GPIO11, GPIO11, TOUCH11, ADC2_CH0, FSPID, FSPIIO5, SUBSPID", 16 IO12 (io) "RTC_GPIO12, GPIO12, TOUCH12, ADC2_CH1, FSPICLK, FSPIIO6, SUBSPICLK", 17 IO13 (io) "RTC_GPIO13, GPIO13, TOUCH13, ADC2_CH2, FSPIQ, FSPIIO7, SUBSPIQ", 18 IO14 (io) "RTC_GPIO14, GPIO14, TOUCH14, ADC2_CH3, FSPIWP, FSPIDQS, SUBSPIWP", 19 IO15/X32P (io) "RTC_GPIO15, GPIO15, U0RTS, ADC2_CH4, XTAL_32K_P", 20 IO16/X32N (io) "RTC_GPIO16, GPIO16, U0CTS, ADC2_CH5, XTAL_32K_N", 21 IO17/TXD1 (io) "RTC_GPIO17, GPIO17, U1TXD, ADC2_CH6", 22 IO18/RXD1 (io) "RTC_GPIO18, GPIO18, U1RXD, ADC2_CH7, CLK_OUT3", 23 IO19/D- (io) "RTC_GPIO19, GPIO19, U1RTS, ADC2_CH8, CLK_OUT2, USB_D-", 24 IO20/D+ (io) "RTC_GPIO20, GPIO20, U1CTS, ADC2_CH9, CLK_OUT1, USB_D+", 25 IO21 (io) "RTC_GPIO21, GPIO21", 26 IO26 (io) "SPICS1, GPIO26", 27 IO47 (io) "SPICLK_P_DIFF, GPIO47, SUBSPICLK_P_DIFF", 28 IO33 (io) "SPIIO4, GPIO33, FSPIHD, SUBSPIHD", 29 IO34 (io) "SPIIO5, GPIO34, FSPICS0, SUBSPICS0", 30 IO48 (io) "SPICLK_N_DIFF, GPIO48, SUBSPICLK_N_DIFF", 31 IO35 (io) "SPIIO6, GPIO35, FSPID, SUBSPID", 32 IO36 (io) "SPIIO7, GPIO36, FSPICLK, SUBSPICLK", 33 IO37 (io) "SPIDQS, GPIO37, FSPIQ, SUBSPIQ", 34 IO38 (io) "GPIO38, FSPIWP, SUBSPIWP", 35 IO39/MTCK (io) "MTCK, GPIO39, CLK_OUT3, SUBSPICS1", 36 IO40/MTDO (io) "MTDO, GPIO40, CLK_OUT2", 37 IO41/MTDI (io) "MTDI, GPIO41, CLK_OUT1", 38 IO42/MTMS (io) "MTMS, GPIO42", 39 TXD0 (io) "U0TXD, GPIO43, CLK_OUT1", 40 RXD0 (io) "U0RXD, GPIO44, CLK_OUT2", 41 IO45 (io) "GPIO45", 42 GND (power), 43 GND (power), 44 IO46 (io) "GPIO46", 45 EN (in) "Chip Enable", 46 GND (power), 47 GND (power), 48 GND (power), 49 GND (power), 50 GND (power), 51 GND (power), 52 GND (power), 53 GND (power), 54 GND (power), 55 GND (power), 56 GND (power), 57 GND (power), 58 GND (power), 59 GND (power), 60 GND (power), 61 GND (power), 62 GND (power), 63 GND (power), 64 GND (power), 65 GND (power)
text: JTAG

## ESP32-S3-WROOM-1
designator U?
PCB Antenna - 2,8 MB PSRAM - 4,8,16 MB Flash - WiFi - BT - MCU; Manufacturer_Name: Espressif Systems; ComponentLink1Description: Datasheet; ComponentLink1URL: https://www.espressif.com/sites/default/files/documentation/esp32-s3-wroom-1_wroom-1u_datasheet_en.pdf; ComponentLink2Description: SoC Datasheet; ComponentLink2URL: https://www.espressif.com/sites/default/files/documentation/esp32-s3_datasheet_en.pdf; ComponentLink3Description: Devkit; ComponentLink3URL: https://docs.espressif.com/projects/esp-idf/en/latest/esp32s3/hw-reference/esp32s3/user-guide-devkitc-1.html
footprint ESP32-S3-WROOM-1 (PCB ANTENNA - 41 PIN)
pins: 1 GND (power), 2 3V3 (power) "Power supply", 3 EN (in) "Chip Enable", 4 IO4 (io) "RTC_GPIO4, GPIO4, TOUCH4, ADC1_CH3", 5 IO5 (io) "RTC_GPIO5, GPIO5, TOUCH5, ADC1_CH4", 6 IO6 (io) "RTC_GPIO6, GPIO6, TOUCH6, ADC1_CH5", 7 IO7 (io) "RTC_GPIO7, GPIO7, TOUCH7, ADC1_CH6", 8 IO15/X32P (io) "RTC_GPIO15, GPIO15, U0RTS, ADC2_CH4, XTAL_32K_P", 9 IO16/X32N (io) "RTC_GPIO16, GPIO16, U0CTS, ADC2_CH5, XTAL_32K_N", 10 IO17/TXD1 (io) "RTC_GPIO17, GPIO17, U1TXD, ADC2_CH6", 11 IO18/RXD1 (io) "RTC_GPIO18, GPIO18, U1RXD, ADC2_CH7, CLK_OUT3", 12 IO8 (io) "RTC_GPIO8, GPIO8, TOUCH8, ADC1_CH7, SUBSPICS1", 13 IO19/D- (io) "RTC_GPIO19, GPIO19, U1RTS, ADC2_CH8, CLK_OUT2, USB_D", 14 IO20/D+ (io) "RTC_GPIO20, GPIO20, U1CTS, ADC2_CH9, CLK_OUT1, USB_D+", 15 IO3 (io) "RTC_GPIO3, GPIO3, TOUCH3, ADC1_CH2", 16 IO46 (io) "GPIO46", 17 IO9 (io) "RTC_GPIO9, GPIO9, TOUCH9, ADC1_CH8, FSPIHD, SUBSPIHD", 18 IO10 (io) "RTC_GPIO10, GPIO10, TOUCH10, ADC1_CH9, FSPICS0, FSPIIO4, SUBSPICS0", 19 IO11 (io) "RTC_GPIO11, GPIO11, TOUCH11, ADC2_C0, FSPID, FSPIIO5, SUBSPID", 20 IO12 (io) "RTC_GPIO12, GPIO12, TOUCH12, ADC2_CH1, FSPICLK, FSPIIO6, SUBSPICLK", 21 IO13 (io) "RTC_GPIO13, GPIO13, TOUCH13, ADC2_CH2, FSPIQ, FSPIIO7, SUBSPIQ", 22 IO14 (io) "RTC_GPIO14, GPIO14, TOUCH14, ADC2_CH3, FSPIWP, FSPIDQS, SUBSPIWP", 23 IO21 (io) "RTC_GPIO21, GPIO21", 24 IO47 (io) "SPICLK_P_DIFF,GPIO47, SUBSPICLK_P_DIFF", 25 IO48 (io) "SPICLK_N_DIFF,GPIO48, SUBSPICLK_N_DIFF", 26 IO45 (io) "GPIO45", 27 IO0 (io) "RTC_GPIO0, GPIO0", 28 IO35 (io) "SPIIO6, GPIO35, FSPID, SUBSPID", 29 IO36 (io) "SPIIO7, GPIO36, FSPICLK, SUBSPICLK", 30 IO37 (io) "SPIDQS, GPIO37, FSPIQ, SUBSPIQ", 31 IO38 (io) "GPIO38, FSPIWP, SUBSPIWP", 32 IO39/MTCK (io) "MTCK, GPIO39, CLK_OUT3, SUBSPICS1", 33 IO40/MTDO (io) "MTDO, GPIO40, CLK_OUT2", 34 IO41/MTDI (io) "MTDI, GPIO41, CLK_OUT1", 35 IO42/MTMS (io) "MTMS, GPIO42", 36 RXD0 (io) "U0RXD, GPIO44, CLK_OUT2", 37 TXD0 (io) "U0TXD, GPIO43, CLK_OUT1", 38 IO2 (io) "RTC_GPIO2, GPIO2, TOUCH2, ADC1_CH1", 39 IO1 (io) "RTC_GPIO1, GPIO1, TOUCH1, ADC1_CH0", 40 GND (power), 41 EPAD (power) "GND"
text: JTAG

## ESP32-S3-WROOM-1U
designator U?
IPEX Antenna - 2,8 MB PSRAM - 4,8,16 MB Flash - WiFi - BT - MCU; Manufacturer_Name: Espressif Systems; ComponentLink1Description: Datasheet; ComponentLink1URL: https://www.espressif.com/sites/default/files/documentation/esp32-s3-wroom-1_wroom-1u_datasheet_en.pdf; ComponentLink2Description: SoC Datasheet; ComponentLink2URL: https://www.espressif.com/sites/default/files/documentation/esp32-s3_datasheet_en.pdf; ComponentLink3Description: Devkit; ComponentLink3URL: https://docs.espressif.com/projects/esp-idf/en/latest/esp32s3/hw-reference/esp32s3/user-guide-devkitc-1.html
footprint ESP32-S3-WROOM-1U (IPEX ANTENNA - 41 PIN)
pins: 1 GND (power), 2 3V3 (power) "Power supply", 3 EN (in) "Chip Enable", 4 IO4 (io) "RTC_GPIO4, GPIO4, TOUCH4, ADC1_CH3", 5 IO5 (io) "RTC_GPIO5, GPIO5, TOUCH5, ADC1_CH4", 6 IO6 (io) "RTC_GPIO6, GPIO6, TOUCH6, ADC1_CH5", 7 IO7 (io) "RTC_GPIO7, GPIO7, TOUCH7, ADC1_CH6", 8 IO15/X32P (io) "RTC_GPIO15, GPIO15, U0RTS, ADC2_CH4, XTAL_32K_P", 9 IO16/X32N (io) "RTC_GPIO16, GPIO16, U0CTS, ADC2_CH5, XTAL_32K_N", 10 IO17/TXD1 (io) "RTC_GPIO17, GPIO17, U1TXD, ADC2_CH6", 11 IO18/RXD1 (io) "RTC_GPIO18, GPIO18, U1RXD, ADC2_CH7, CLK_OUT3", 12 IO8 (io) "RTC_GPIO8, GPIO8, TOUCH8, ADC1_CH7, SUBSPICS1", 13 IO19/D- (io) "RTC_GPIO19, GPIO19, U1RTS, ADC2_CH8, CLK_OUT2, USB_D", 14 IO20/D+ (io) "RTC_GPIO20, GPIO20, U1CTS, ADC2_CH9, CLK_OUT1, USB_D+", 15 IO3 (io) "RTC_GPIO3, GPIO3, TOUCH3, ADC1_CH2", 16 IO46 (io) "GPIO46", 17 IO9 (io) "RTC_GPIO9, GPIO9, TOUCH9, ADC1_CH8, FSPIHD, SUBSPIHD", 18 IO10 (io) "RTC_GPIO10, GPIO10, TOUCH10, ADC1_CH9, FSPICS0, FSPIIO4, SUBSPICS0", 19 IO11 (io) "RTC_GPIO11, GPIO11, TOUCH11, ADC2_C0, FSPID, FSPIIO5, SUBSPID", 20 IO12 (io) "RTC_GPIO12, GPIO12, TOUCH12, ADC2_CH1, FSPICLK, FSPIIO6, SUBSPICLK", 21 IO13 (io) "RTC_GPIO13, GPIO13, TOUCH13, ADC2_CH2, FSPIQ, FSPIIO7, SUBSPIQ", 22 IO14 (io) "RTC_GPIO14, GPIO14, TOUCH14, ADC2_CH3, FSPIWP, FSPIDQS, SUBSPIWP", 23 IO21 (io) "RTC_GPIO21, GPIO21", 24 IO47 (io) "SPICLK_P_DIFF,GPIO47, SUBSPICLK_P_DIFF", 25 IO48 (io) "SPICLK_N_DIFF,GPIO48, SUBSPICLK_N_DIFF", 26 IO45 (io) "GPIO45", 27 IO0 (io) "RTC_GPIO0, GPIO0", 28 IO35 (io) "SPIIO6, GPIO35, FSPID, SUBSPID", 29 IO36 (io) "SPIIO7, GPIO36, FSPICLK, SUBSPICLK", 30 IO37 (io) "SPIDQS, GPIO37, FSPIQ, SUBSPIQ", 31 IO38 (io) "GPIO38, FSPIWP, SUBSPIWP", 32 IO39/MTCK (io) "MTCK, GPIO39, CLK_OUT3, SUBSPICS1", 33 IO40/MTDO (io) "MTDO, GPIO40, CLK_OUT2", 34 IO41/MTDI (io) "MTDI, GPIO41, CLK_OUT1", 35 IO42/MTMS (io) "MTMS, GPIO42", 36 RXD0 (io) "U0RXD, GPIO44, CLK_OUT2", 37 TXD0 (io) "U0TXD, GPIO43, CLK_OUT1", 38 IO2 (io) "RTC_GPIO2, GPIO2, TOUCH2, ADC1_CH1", 39 IO1 (io) "RTC_GPIO1, GPIO1, TOUCH1, ADC1_CH0", 40 GND (power), 41 EPAD (power) "GND"
text: JTAG

## ESP32-S3-WROOM-2
designator U?
PCB Antenna - 8 MB PSRAM - 16,32 MB Flash - WiFi - BT - MCU; Manufacturer_Name: Espressif Systems; ComponentLink1Description: Datasheet; ComponentLink2Description: SoC Datasheet; ComponentLink2URL: https://www.espressif.com/sites/default/files/documentation/esp32-s3_datasheet_en.pdf; ComponentLink3Description: Devkit; ComponentLink3URL: https://docs.espressif.com/projects/esp-idf/en/latest/esp32s3/hw-reference/esp32s3/user-guide-devkitc-1.html
footprint ESP32-S3-WROOM-1 (PCB ANTENNA - 41 PIN)
pins: 1 GND (power), 2 3V3 (power) "Power supply", 3 EN (in) "Chip Enable", 4 IO4 (io) "RTC_GPIO4, GPIO4, TOUCH4, ADC1_CH3", 5 IO5 (io) "RTC_GPIO5, GPIO5, TOUCH5, ADC1_CH4", 6 IO6 (io) "RTC_GPIO6, GPIO6, TOUCH6, ADC1_CH5", 7 IO7 (io) "RTC_GPIO7, GPIO7, TOUCH7, ADC1_CH6", 8 IO15/X32P (io) "RTC_GPIO15, GPIO15, U0RTS, ADC2_CH4, XTAL_32K_P", 9 IO16/X32N (io) "RTC_GPIO16, GPIO16, U0CTS, ADC2_CH5, XTAL_32K_N", 10 IO17/TXD1 (io) "RTC_GPIO17, GPIO17, U1TXD, ADC2_CH6", 11 IO18/RXD1 (io) "RTC_GPIO18, GPIO18, U1RXD, ADC2_CH7, CLK_OUT3", 12 IO8 (io) "RTC_GPIO8, GPIO8, TOUCH8, ADC1_CH7, SUBSPICS1", 13 IO19/D- (io) "RTC_GPIO19, GPIO19, U1RTS, ADC2_CH8, CLK_OUT2, USB_D", 14 IO20/D+ (io) "RTC_GPIO20, GPIO20, U1CTS, ADC2_CH9, CLK_OUT1, USB_D+", 15 IO3 (io) "RTC_GPIO3, GPIO3, TOUCH3, ADC1_CH2", 16 IO46 (io) "GPIO46", 17 IO9 (io) "RTC_GPIO9, GPIO9, TOUCH9, ADC1_CH8, FSPIHD, SUBSPIHD", 18 IO10 (io) "RTC_GPIO10, GPIO10, TOUCH10, ADC1_CH9, FSPICS0, FSPIIO4, SUBSPICS0", 19 IO11 (io) "RTC_GPIO11, GPIO11, TOUCH11, ADC2_C0, FSPID, FSPIIO5, SUBSPID", 20 IO12 (io) "RTC_GPIO12, GPIO12, TOUCH12, ADC2_CH1, FSPICLK, FSPIIO6, SUBSPICLK", 21 IO13 (io) "RTC_GPIO13, GPIO13, TOUCH13, ADC2_CH2, FSPIQ, FSPIIO7, SUBSPIQ", 22 IO14 (io) "RTC_GPIO14, GPIO14, TOUCH14, ADC2_CH3, FSPIWP, FSPIDQS, SUBSPIWP", 23 IO21 (io) "RTC_GPIO21, GPIO21", 24 IO47 (io) "SPICLK_P_DIFF,GPIO47, SUBSPICLK_P_DIFF", 25 IO48 (io) "SPICLK_N_DIFF,GPIO48, SUBSPICLK_N_DIFF", 26 IO45 (io) "GPIO45", 27 IO0 (io) "RTC_GPIO0, GPIO0", 28 IO35 (io) "SPIIO6, GPIO35, FSPID, SUBSPID", 29 IO36 (io) "SPIIO7, GPIO36, FSPICLK, SUBSPICLK", 30 IO37 (io) "SPIDQS, GPIO37, FSPIQ, SUBSPIQ", 31 IO38 (io) "GPIO38, FSPIWP, SUBSPIWP", 32 IO39/MTCK (io) "MTCK, GPIO39, CLK_OUT3, SUBSPICS1", 33 IO40/MTDO (io) "MTDO, GPIO40, CLK_OUT2", 34 IO41/MTDI (io) "MTDI, GPIO41, CLK_OUT1", 35 IO42/MTMS (io) "MTMS, GPIO42", 36 RXD0 (io) "U0RXD, GPIO44, CLK_OUT2", 37 TXD0 (io) "U0TXD, GPIO43, CLK_OUT1", 38 IO2 (io) "RTC_GPIO2, GPIO2, TOUCH2, ADC1_CH1", 39 IO1 (io) "RTC_GPIO1, GPIO1, TOUCH1, ADC1_CH0", 40 GND (power), 41 EPAD (power) "GND"
text: JTAG

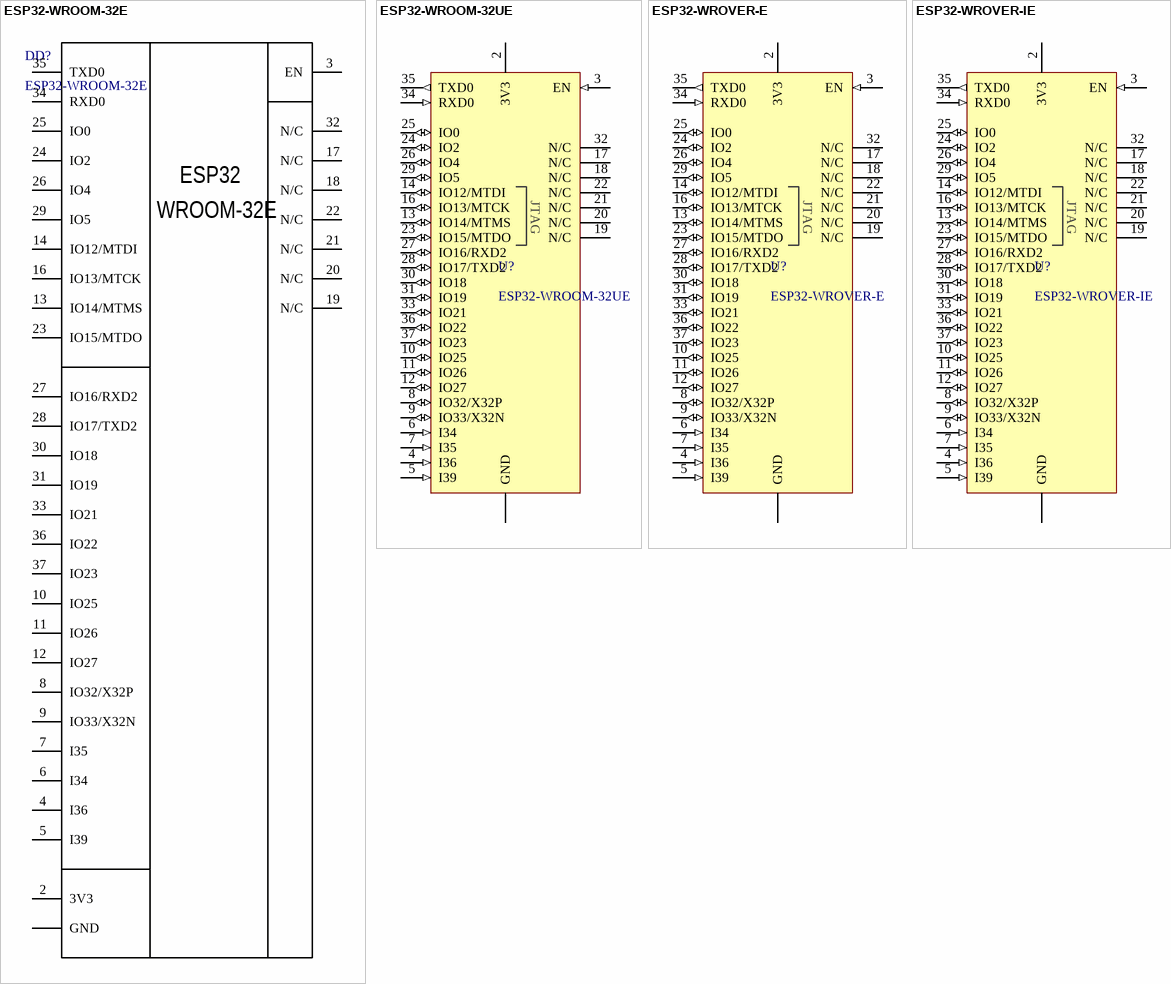
[diagram p2: symbols ESP32-WROOM-32E to ESP32-WROVER-IE]

## ESP32-WROOM-32E
designator DD?  (mechanical)
PCB Antenna - 4,8,16 MB Flash - WiFi - BT - MCU; Manufacturer_Name: Espressif Systems; ComponentLink1Description: Datasheet; ComponentLink1URL: https://www.espressif.com/sites/default/files/documentation/esp32-wroom-32e_esp32-wroom-32ue_datasheet_en.pdf; ComponentLink2Description: SoC Datasheet; ComponentLink2URL: https://www.espressif.com/sites/default/files/documentation/esp32_datasheet_en.pdf; ComponentLink3Description: Devkit; ComponentLink3URL: https://www.espressif.com/en/products/devkits/esp32-devkitc
footprint ESP32-WROOM-32E (PCB ANTENNA - 38 PIN)
pins: 1 GND "Ground", 2 3V3 "Power Supply", 3 EN "Chip Enable", 4 I36 "GPIO36, ADC1_CH0, RTC_GPIO0, SENSOR_VP", 5 I39 "GPIO39, ADC1_CH3, RTC_GPIO3, SENSOR_VN", 6 I34 "GPIO34, ADC1_CH6, RTC_GPIO4", 7 I35 "GPIO35, ADC1_CH7, RTC_GPIO5", 8 IO32/X32P "GPIO32, XTAL_32K_P (32.768 kHz crystal oscillator input), ADC1_CH4, TOUCH9, RTC_GPIO9", 9 IO33/X32N "GPIO33, XTAL_32K_N (32.768 kHz crystal oscillator output), ADC1_CH5, TOUCH8, RTC_GPIO8", 10 IO25 "GPIO25, DAC_1, ADC2_CH8, RTC_GPIO6, EMAC_RXD0", 11 IO26 "GPIO26, DAC_2, ADC2_CH9, RTC_GPIO7, EMAC_RXD1", 12 IO27 "GPIO27, ADC2_CH7, TOUCH7, RTC_GPIO17, EMAC_RX_DV", 13 IO14/MTMS "GPIO14, ADC2_CH6, TOUCH6, RTC_GPIO16, MTMS, HSPICLK, HS2_CLK, SD_CLK, EMAC_TXD2", 14 IO12/MTDI "GPIO12, ADC2_CH5, TOUCH5, RTC_GPIO15, MTDI, HSPIQ, HS2_DATA2, SD_DATA2, EMAC_TXD3", 15 GND "Ground", 16 IO13/MTCK "GPIO13, ADC2_CH4, TOUCH4, RTC_GPIO14, MTCK, HSPID, HS2_DATA3, SD_DATA3, EMAC_RX_ER", 17 N/C "Internal Flash IO", 18 N/C "Internal Flash IO", 19 N/C "Internal Flash IO", 20 N/C "Internal Flash IO", 21 N/C "Internal Flash IO", 22 N/C "Internal Flash IO", 23 IO15/MTDO "GPIO15, ADC2_CH3, TOUCH3, MTDO, HSPICS0, RTC_GPIO13, HS2_CMD, SD_CMD, EMAC_RXD3", 24 IO2 "GPIO2, ADC2_CH2, TOUCH2, RTC_GPIO12, HSPIWP, HS2_DATA0, SD_DATA0", 25 IO0 "GPIO0, ADC2_CH1, TOUCH1, RTC_GPIO11, CLK_OUT1, EMAC_TX_CLK", 26 IO4 "GPIO4, ADC2_CH0, TOUCH0, RTC_GPIO10, HSPIHD, HS2_DATA1, SD_DATA1, EMAC_TX_ER", 27 IO16/RXD2 "GPIO16, HS1_DATA4, U2RXD, EMAC_CLK_OUT", 28 IO17/TXD2 "GPIO17, HS1_DATA5, U2TXD, EMAC_CLK_OUT_180", 29 IO5 "GPIO5, VSPICS0, HS1_DATA6, EMAC_RX_CLK", 30 IO18 "GPIO18, VSPICLK, HS1_DATA7", 31 IO19 "GPIO19, VSPIQ, U0CTS, EMAC_TXD0", 32 N/C "Non Connected", 33 IO21 "GPIO21, VSPIHD, EMAC_TX_EN", 34 RXD0 "GPIO3, U0RXD, CLK_OUT2", 35 TXD0 "GPIO1, U0TXD, CLK_OUT3, EMAC_RXD2", 36 IO22 "GPIO22, VSPIWP, U0RTS, EMAC_TXD1", 37 IO23 "GPIO23, VSPID, HS1_STROBE", 38 GND "Ground", 39 GND "Ground"
text: ESP32; WROOM-32E

## ESP32-WROOM-32UE
designator U?
IPEX Antenna - 4,8,16 MB Flash - WiFi - BT - MCU; Manufacturer_Name: Espressif Systems; ComponentLink1Description: Datasheet; ComponentLink1URL: https://www.espressif.com/sites/default/files/documentation/esp32-wroom-32e_esp32-wroom-32ue_datasheet_en.pdf; ComponentLink2Description: SoC Datasheet; ComponentLink2URL: https://www.espressif.com/sites/default/files/documentation/esp32_datasheet_en.pdf; ComponentLink3Description: Devkit; ComponentLink3URL: https://www.espressif.com/en/products/devkits/esp32-devkitc
footprint ESP32-WROOM-32UE (IPEX ANTENNA - 38 PIN)
pins: 1 GND (power) "Ground", 2 3V3 (power) "Power Supply", 3 EN (in) "Chip Enable", 4 I36 (in) "GPIO36, ADC1_CH0, RTC_GPIO0, SENSOR_VP", 5 I39 (in) "GPIO39, ADC1_CH3, RTC_GPIO3, SENSOR_VN", 6 I34 (in) "GPIO34, ADC1_CH6, RTC_GPIO4", 7 I35 (in) "GPIO35, ADC1_CH7, RTC_GPIO5", 8 IO32/X32P (io) "GPIO32, XTAL_32K_P (32.768 kHz crystal oscillator input), ADC1_CH4, TOUCH9, RTC_GPIO9", 9 IO33/X32N (io) "GPIO33, XTAL_32K_N (32.768 kHz crystal oscillator output), ADC1_CH5, TOUCH8, RTC_GPIO8", 10 IO25 (io) "GPIO25, DAC_1, ADC2_CH8, RTC_GPIO6, EMAC_RXD0", 11 IO26 (io) "GPIO26, DAC_2, ADC2_CH9, RTC_GPIO7, EMAC_RXD1", 12 IO27 (io) "GPIO27, ADC2_CH7, TOUCH7, RTC_GPIO17, EMAC_RX_DV", 13 IO14/MTMS (io) "GPIO14, ADC2_CH6, TOUCH6, RTC_GPIO16, MTMS, HSPICLK, HS2_CLK, SD_CLK, EMAC_TXD2", 14 IO12/MTDI (io) "GPIO12, ADC2_CH5, TOUCH5, RTC_GPIO15, MTDI, HSPIQ, HS2_DATA2, SD_DATA2, EMAC_TXD3", 15 GND (power) "Ground", 16 IO13/MTCK (io) "GPIO13, ADC2_CH4, TOUCH4, RTC_GPIO14, MTCK, HSPID, HS2_DATA3, SD_DATA3, EMAC_RX_ER", 17 N/C "Internal Flash IO", 18 N/C "Internal Flash IO", 19 N/C "Internal Flash IO", 20 N/C "Internal Flash IO", 21 N/C "Internal Flash IO", 22 N/C "Internal Flash IO", 23 IO15/MTDO (io) "GPIO15, ADC2_CH3, TOUCH3, MTDO, HSPICS0, RTC_GPIO13, HS2_CMD, SD_CMD, EMAC_RXD3", 24 IO2 (io) "GPIO2, ADC2_CH2, TOUCH2, RTC_GPIO12, HSPIWP, HS2_DATA0, SD_DATA0", 25 IO0 (io) "GPIO0, ADC2_CH1, TOUCH1, RTC_GPIO11, CLK_OUT1, EMAC_TX_CLK", 26 IO4 (io) "GPIO4, ADC2_CH0, TOUCH0, RTC_GPIO10, HSPIHD, HS2_DATA1, SD_DATA1, EMAC_TX_ER", 27 IO16/RXD2 (io) "GPIO16, HS1_DATA4, U2RXD, EMAC_CLK_OUT", 28 IO17/TXD2 (io) "GPIO17, HS1_DATA5, U2TXD, EMAC_CLK_OUT_180", 29 IO5 (io) "GPIO5, VSPICS0, HS1_DATA6, EMAC_RX_CLK", 30 IO18 (io) "GPIO18, VSPICLK, HS1_DATA7", 31 IO19 (io) "GPIO19, VSPIQ, U0CTS, EMAC_TXD0", 32 N/C "Non Connected", 33 IO21 (io) "GPIO21, VSPIHD, EMAC_TX_EN", 34 RXD0 (in) "GPIO3, U0RXD, CLK_OUT2", 35 TXD0 (out) "GPIO1, U0TXD, CLK_OUT3, EMAC_RXD2", 36 IO22 (io) "GPIO22, VSPIWP, U0RTS, EMAC_TXD1", 37 IO23 (io) "GPIO23, VSPID, HS1_STROBE", 38 GND (power) "Ground", 39 GND (power) "Ground"
text: JTAG

## ESP32-WROVER-E
designator U?
PCB Antenna - 8 MB PSRAM - 4,8,16 MB Flash - WiFi - BT - MCU; Manufacturer_Name: Espressif Systems; ComponentLink1Description: Datasheet; ComponentLink1URL: https://www.espressif.com/sites/default/files/documentation/esp32-wrover-e_esp32-wrover-ie_datasheet_en.pdf; ComponentLink2Description: SoC Datasheet; ComponentLink2URL: https://www.espressif.com/sites/default/files/documentation/esp32_datasheet_en.pdf; ComponentLink3Description: Devkit; ComponentLink3URL: https://www.espressif.com/en/products/devkits/esp32-devkitc
footprint ESP32-WROVER-E (PCB ANTENNA - 38 PIN)
pins: 1 GND (power) "Ground", 2 3V3 (power) "Power Supply", 3 EN (in) "Chip Enable", 4 I36 (in) "GPIO36, ADC1_CH0, RTC_GPIO0, SENSOR_VP", 5 I39 (in) "GPIO39, ADC1_CH3, RTC_GPIO3, SENSOR_VN", 6 I34 (in) "GPIO34, ADC1_CH6, RTC_GPIO4", 7 I35 (in) "GPIO35, ADC1_CH7, RTC_GPIO5", 8 IO32/X32P (io) "GPIO32, XTAL_32K_P (32.768 kHz crystal oscillator input), ADC1_CH4, TOUCH9, RTC_GPIO9", 9 IO33/X32N (io) "GPIO33, XTAL_32K_N (32.768 kHz crystal oscillator output), ADC1_CH5, TOUCH8, RTC_GPIO8", 10 IO25 (io) "GPIO25, DAC_1, ADC2_CH8, RTC_GPIO6, EMAC_RXD0", 11 IO26 (io) "GPIO26, DAC_2, ADC2_CH9, RTC_GPIO7, EMAC_RXD1", 12 IO27 (io) "GPIO27, ADC2_CH7, TOUCH7, RTC_GPIO17, EMAC_RX_DV", 13 IO14/MTMS (io) "GPIO14, ADC2_CH6, TOUCH6, RTC_GPIO16, MTMS, HSPICLK, HS2_CLK, SD_CLK, EMAC_TXD2", 14 IO12/MTDI (io) "GPIO12, ADC2_CH5, TOUCH5, RTC_GPIO15, MTDI, HSPIQ, HS2_DATA2, SD_DATA2, EMAC_TXD3", 15 GND (power) "Ground", 16 IO13/MTCK (io) "GPIO13, ADC2_CH4, TOUCH4, RTC_GPIO14, MTCK, HSPID, HS2_DATA3, SD_DATA3, EMAC_RX_ER", 17 N/C "Internal Flash IO", 18 N/C "Internal Flash IO", 19 N/C "Internal Flash IO", 20 N/C "Internal Flash IO", 21 N/C "Internal Flash IO", 22 N/C "Internal Flash IO", 23 IO15/MTDO (io) "GPIO15, ADC2_CH3, TOUCH3, MTDO, HSPICS0, RTC_GPIO13, HS2_CMD, SD_CMD, EMAC_RXD3", 24 IO2 (io) "GPIO2, ADC2_CH2, TOUCH2, RTC_GPIO12, HSPIWP, HS2_DATA0, SD_DATA0", 25 IO0 (io) "GPIO0, ADC2_CH1, TOUCH1, RTC_GPIO11, CLK_OUT1, EMAC_TX_CLK", 26 IO4 (io) "GPIO4, ADC2_CH0, TOUCH0, RTC_GPIO10, HSPIHD, HS2_DATA1, SD_DATA1, EMAC_TX_ER", 27 IO16/RXD2 (io) "GPIO16, HS1_DATA4, U2RXD, EMAC_CLK_OUT", 28 IO17/TXD2 (io) "GPIO17, HS1_DATA5, U2TXD, EMAC_CLK_OUT_180", 29 IO5 (io) "GPIO5, VSPICS0, HS1_DATA6, EMAC_RX_CLK", 30 IO18 (io) "GPIO18, VSPICLK, HS1_DATA7", 31 IO19 (io) "GPIO19, VSPIQ, U0CTS, EMAC_TXD0", 32 N/C "Non Connected", 33 IO21 (io) "GPIO21, VSPIHD, EMAC_TX_EN", 34 RXD0 (in) "GPIO3, U0RXD, CLK_OUT2", 35 TXD0 (out) "GPIO1, U0TXD, CLK_OUT3, EMAC_RXD2", 36 IO22 (io) "GPIO22, VSPIWP, U0RTS, EMAC_TXD1", 37 IO23 (io) "GPIO23, VSPID, HS1_STROBE", 38 GND (power) "Ground", 39 GND (power) "Ground"
text: JTAG